# Altium schematic symbol library IC.SchLib: 114 symbols (part 1 of 3)
Pins are listed as number, name and electrical type; pins without a type are passive.

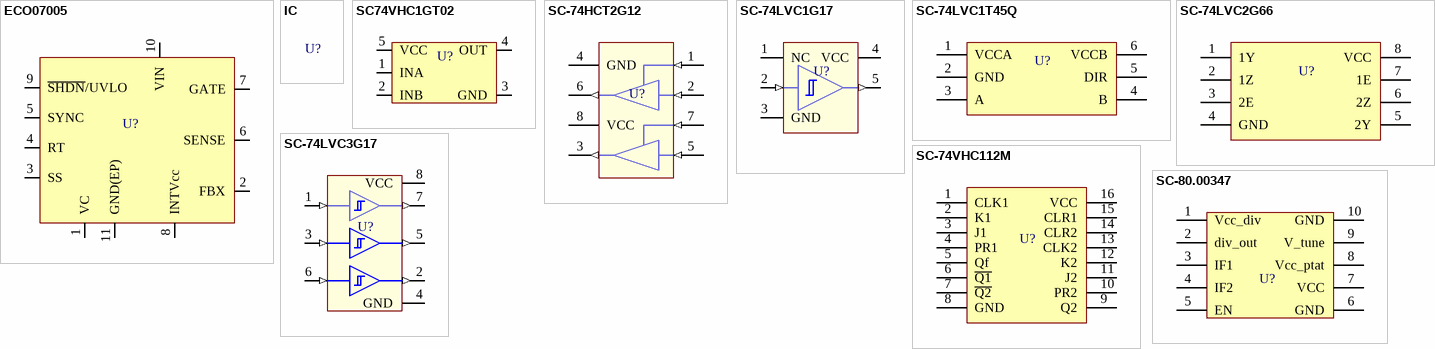
[diagram p0: symbols ECO07005 to SC-80.00347]

## ECO07005
designator U?  (value not drawn)
Boost, Flyback, SEPIC Regulator Positive and Negative Output Step-Up, Step-Up/Step-Down DC-DC Controller IC 10-MSOP-EP; Manufacturer Part Number: LT3757HMSE#PBF; Working Temperature: -40°C ~ 150°C; Short Description: IC CTRLR DC/DC ADJ 10-MSOP; Power: NC; Ratings: ROHS3; Frequency: 100KHZ ~ 1MHZ; Voltage: 2.9V ~ 40V; Value: NC; Mounting: SMT; Type: NC; Alternate Part Number 1: *; Alternate Part Number 2: *; Tolerance: NC; Revision Date: 8/3/22
footprint MSOP_10_EP (10-Lead Plastic MSOP, Exposed Die Pad)
pins: 1 VC, 2 FBX, 3 SS, 4 RT, 5 SYNC, 6 SENSE, 7 GATE, 8 INTVcc, 9 ~{SHDN}/UVLO, 10 VIN, 11 GND(EP)

## IC
designator U?
Working Temperature: NC; Short Description: ND; Value: NC; Manufacturer Part Number: *; Temperature Coefficient: NC; Mounting: *; Power: NC; Ratings: *; Type: NC; Frequency: NC; Alternate Part Number 1: *; Alternate Part Number 2: *; Manufacturer: *; Tolerance: NC; Current: NC; Revision Date: *; Package Reference: *; Voltage: NC

## SC74VHC1GT02
designator U?
NOR Gate IC 1 Channel - 5-TSOP; Manufacturer Part Number: M74VHC1GT02DTT1G; Manufacturer: ON Semiconductor; Working Temperature: -55°C ~ 125°C (TA); Temperature Coefficient: NC; Short Description: IC GATE NOR 1CH 2-INP 5TSOP; Ratings: REACH, ROHS3; Voltage: 3V ~ 5.5V; Value: NC; Mounting: SMT; Power: NC; Type: Gate; Frequency: NC; Alternate Part Number 1: *; Alternate Part Number 2: *; Tolerance: NC; Current: NC; Revision Date: 12/11/21; Package Reference: SOT-23-5
footprint SOT-23-5 (Footprint not found)
pins: 1 INA, 2 INB, 3 GND, 4 OUT, 5 VCC

## SC-74HCT2G12
designator U?
Buffer, Non-Inverting 2 Element 1 Bit per Element 3-State Output 8-XSON, SOT996-2 (2x3); Manufacturer Part Number: 74HCT2G126GD,125; Manufacturer: NXP USA Inc.; Working Temperature: -40°C ~ 125°C (TA); Temperature Coefficient: NC; Short Description: IC BUFFER NON-INVERT 5.5V 8XSON; Ratings: ROHS3; Voltage: 4.5V ~ 5.5V; Value: NC; Mounting: SMT; Power: NC; Type: NC; Frequency: NC; Alternate Part Number 1: *; Alternate Part Number 2: *; Tolerance: NC; Current: NC; Revision Date: 03/08/21; Package Reference: XSON-8
footprint XSON-8 (Footprint not found)
pins: 1 1OE (in), 2 1A (in), 3 2Y (out), 4 GND (power), 5 2A (in), 6 1Y (out), 7 2OE (in), 8 VCC (power)

## SC-74LVC1G17
designator U?
Buffer, Non-Inverting, Schmitt Trigger 1 Element 1 Bit per Element Push-Pull Output SOT-23-5, SC-70-5; Manufacturer Part Number: SN74LVC1G17; Manufacturer: Texas Instruments; Working Temperature: -40°C ~ 125°C (TA); Temperature Coefficient: NC; Short Description: IC BUF NON-INVERT 5.5V SOT23-5 SC70-5; Ratings: ROHS3; Voltage: 1.65V ~ 5.5V; Value: NC; Mounting: SMT; Power: NC; Type: Schmitt Trigger; Frequency: NC; Alternate Part Number 1: *; Alternate Part Number 2: *; Tolerance: NC; Current: NC; Revision Date: 26/04/23; Package Reference: SOT-23-5, SC-70-5
footprint SOT-23-5
footprint SC-70-5
pins: 1 NC, 2 A (in), 3 GND (power), 4 VCC (power), 5 Y (out)

## SC-74LVC1T45Q
designator U?
Voltage Level Translator Bidirectional 1 Circuit 1 Channel 420Mbps SC-70-6; Manufacturer Part Number: SN74LVC1T45QDCKRQ1; Manufacturer: Texas Instruments; Working Temperature: -40°C ~ 125°C (TA); Temperature Coefficient: NC; Short Description: IC TRANSLTR BIDIRECTIONAL SC70-6; Ratings: REACH, ROHS3, AEC-Q100; Voltage: 1.65V ~ 5.5V; Value: NC; Mounting: SMT; Power: NC; Type: Level TRNSLTR; Frequency: NC; Alternate Part Number 1: *; Alternate Part Number 2: *; Tolerance: NC; Current: NC; Revision Date: 11/04/23; Package Reference: SC-70-6
footprint SOT-363-6
pins: 1 VCCA, 2 GND, 3 A, 4 B, 5 DIR, 6 VCCB

## SC-74LVC2G66
designator U?
2 Circuit IC Switch 1:1 10Ohm 8-TSSOP; Manufacturer Part Number: 74LVC2G66DP,125; Manufacturer: Nexperia USA Inc.; Working Temperature: -40°C ~ 125°C (TA); Temperature Coefficient: NC; Short Description: IC SWITCH DUAL SPST 8TSSOP; Ratings: ROHS3; Voltage: 1.65V ~ 5.5V; Value: NC; Mounting: SMT; Power: NC; Type: NC; Frequency: NC; Alternate Part Number 1: *; Alternate Part Number 2: *; Tolerance: NC; Current: NC; Revision Date: 03/08/21; Package Reference: TSSOP-8
footprint TSSOP-8 (Footprint not found)
pins: 1 1Y, 2 1Z, 3 2E, 4 GND, 5 2Y, 6 2Z, 7 1E, 8 VCC

## SC-74LVC3G17
designator U?
Buffer, Non-Inverting, Schmitt Trigger 3 Element 1 Bit per Element Push-Pull Output VSSOP-8; Manufacturer Part Number: SN74LVC3G17DCU; Manufacturer: Texas Instruments; Working Temperature: -40°C ~ 125°C (TA); Temperature Coefficient: NC; Short Description: IC BUFFER NON-INVERT 5.5V; Ratings: ROHS3; Voltage: 1.65V ~ 5.5V; Value: NC; Mounting: SMT; Power: NC; Type: Schmitt Trigger; Frequency: NC; Alternate Part Number 1: *; Alternate Part Number 2: *; Tolerance: NC; Current: NC; Revision Date: 26/04/23; Package Reference: VSSOP-8
footprint VSSOP-8
pins: 1 1A (in), 2 3Y (out), 3 2A (in), 4 GND (power), 5 2Y (out), 6 3A (in), 7 1Y (out), 8 VCC (power)

## SC-74VHC112M
designator U?
Flip Flop 2 Element JK Type 1 Bit Negative Edge 16-TSSOP (0.173", 4.40mm Width); Manufacturer Part Number: 74VHC112MTCX; Manufacturer: ON Semiconductor; Working Temperature: -40°C ~ 85°C (TA); Temperature Coefficient: NC; Short Description: IC FF JK TYPE DUAL 1BIT 16TSSOP; Voltage: 2V ~ 5.5V; Value: NC; Mounting: SMT; Power: NC; Ratings: *; Type: NC; Frequency: NC; Alternate Part Number 1: *; Alternate Part Number 2: *; Tolerance: NC; Current: NC; Revision Date: 03/08/21; Package Reference: TSSOP-16
footprint TSSOP-16 (Footprint not found)
pins: 1 CLK1, 2 K1, 3 J1, 4 PR1, 5 Qf, 6 ~{Q1}, 7 ~{Q2}, 8 GND, 9 Q2, 10 PR2, 11 J2, 12 K2, 13 CLK2, 14 CLR2, 15 CLR1, 16 VCC

## SC-80.00347
designator U?
Proximity/Occupancy Sensor Radar - Analog Signal - -; Manufacturer Part Number: 80.00000347; Manufacturer: InnoSenT GmbH; Working Temperature: -40°C ~ 85°C; Short Description: SMR-334 RADAR MODULE; Power: NC; Ratings: ROHS3; Frequency: 24GHz; Value: NC; Temperature Coefficient: -40°C ~ 85°C; Mounting: SMT; Type: NC; Alternate Part Number 1: *; Alternate Part Number 2: *; Tolerance: NC; Revision Date: 8/3/22; Voltage: NC
footprint SMR-333/334
pins: 1 Vcc_div, 2 div_out, 3 IF1, 4 IF2, 5 EN, 6 GND, 7 VCC, 8 Vcc_ptat, 9 V_tune, 10 GND

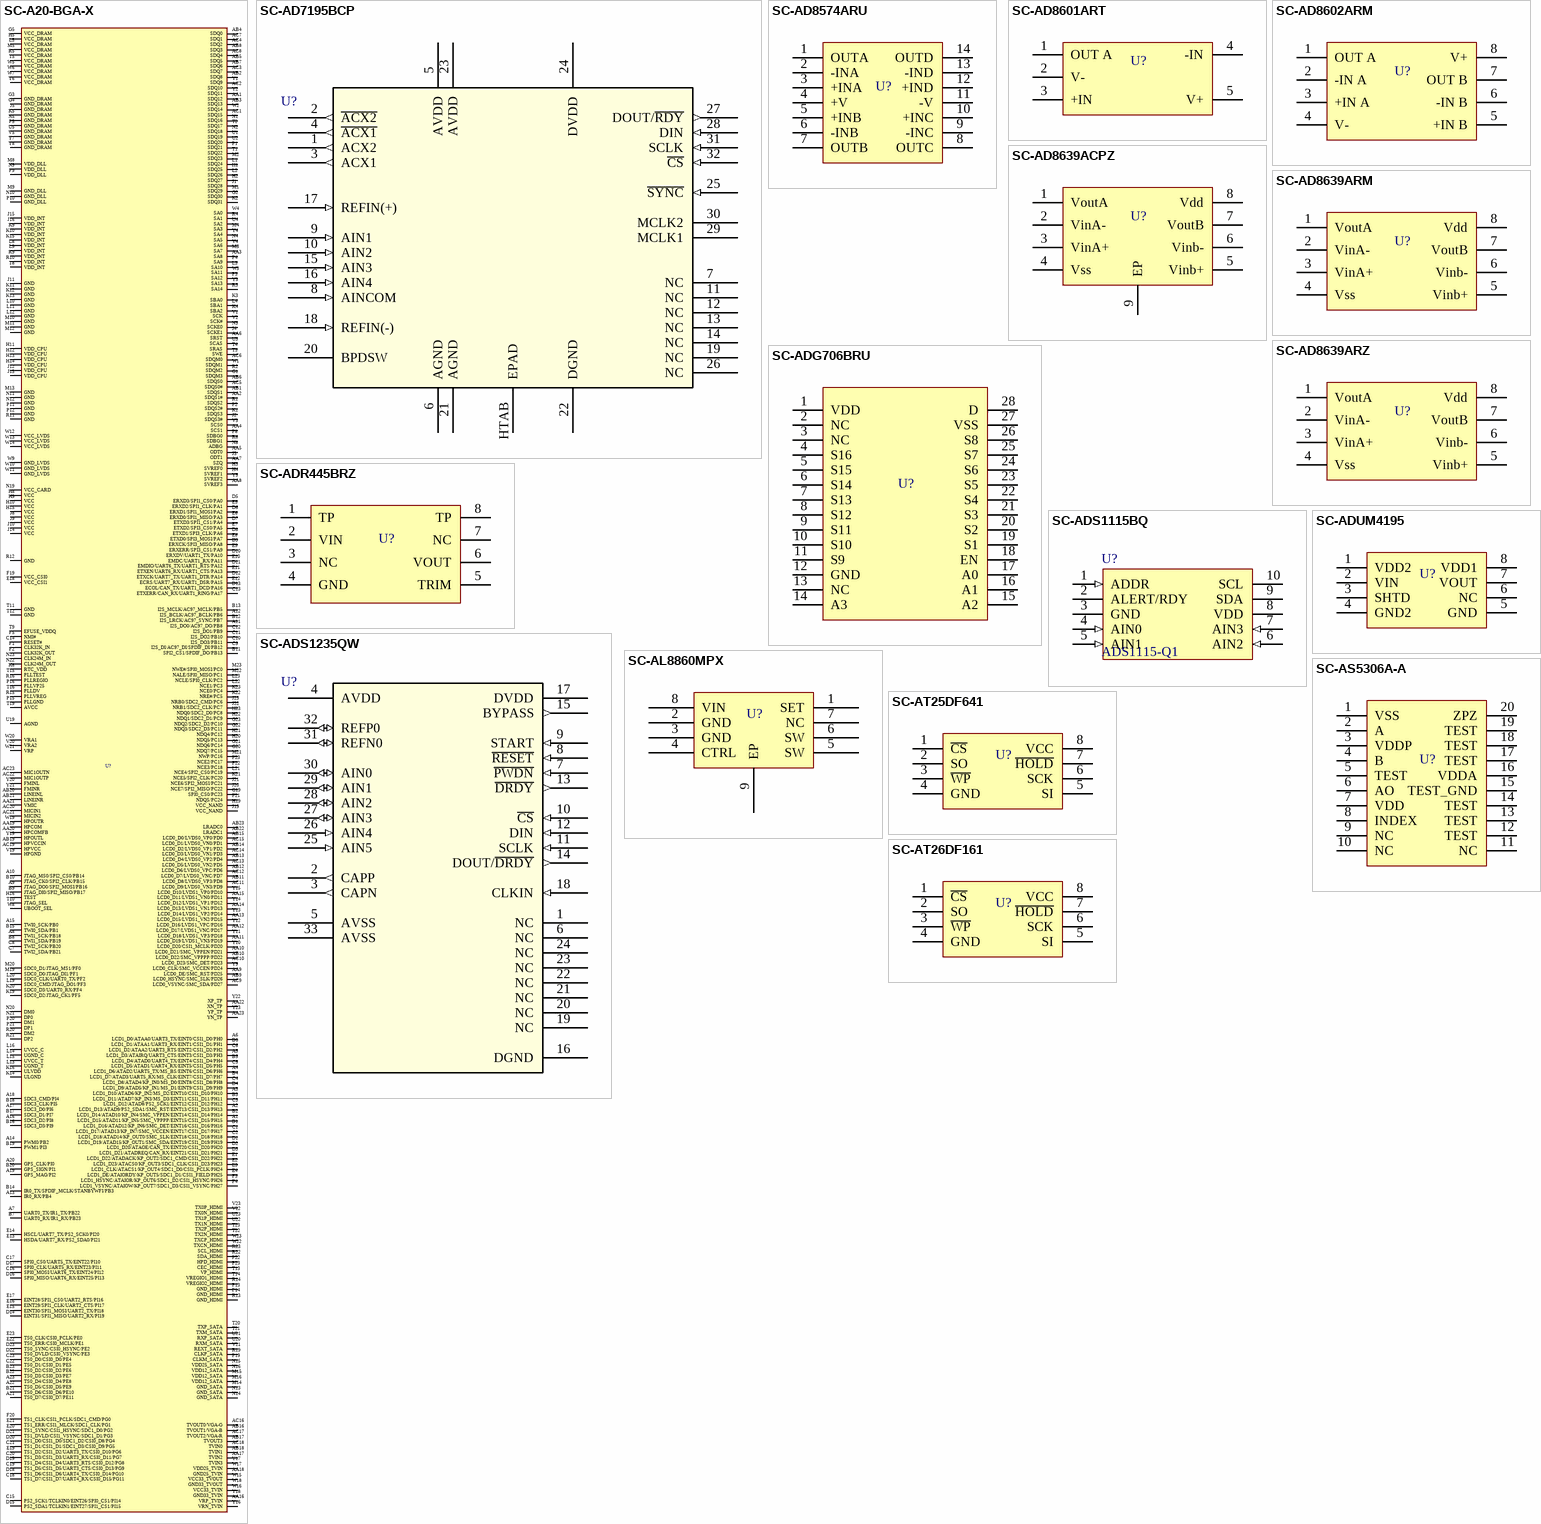
[diagram p1: symbols SC-A20-BGA-X to SC-AT26DF161]

## SC-A20-BGA-X
designator U?
ALLWINNER A20 BGA441 DUAL CORE PROC; Working Temperature: NC; Value: NC; Manufacturer Part Number: Allwinner; Temperature Coefficient: NC; Mounting: SMT; Short Description: ALLWINNER A20 BGA441 DUAL CORE PROC; Power: NC; Ratings: *; Type: NC; Frequency: NC; Alternate Part Number 1: *; Alternate Part Number 2: *; Manufacturer: Allwinner A20; Tolerance: NC; Current: NC; Revision Date: 03/08/21; Package Reference: TFBGA-441; Voltage: NC
footprint TFBGA-441 (Footprint not found)
pins: A1 LCD1_D15/ATAD11/KP_IN5/SMC_VPPPP/EINT15/CSI1_D15/PH15, A2 LCD1_D13/ATAD9/PS2_SDA1/SMC_RST/EINT13/CSI1_D13/PH13, A3 LCD1_D10/ATAD6/KP_IN2/MS_D2/EINT10/CSI1_D10/PH10, A4 LCD1_D6/ATAD2/UART5_TX/MS_BS/EINT6/CSI1_D6/PH6, A5 LCD1_D3/ATAIRQ/UART3_CTS/EINT3/CSI1_D3/PH3, A6 LCD1_D0/ATAA0/UART3_TX/EINT0/CSI1_D0/PH0, A7 UART0_TX/IR1_TX/PB22, A8 TWI1_SCK/PB18, A9 JTAG_DO0/SPI2_MOSI/PB16, A10 JTAG_MS0/SPI2_CS0/PB14, A11 I2S_DO0/AC97_DO/PB8, A12 I2S_BCLK/AC97_BCLK/PB6, A13 IR0_RX/PB4, A14 PWM0/PB2, A15 TWI0_SCK/PB0, A16 SDC3_D2/PI8, A17 SDC3_D0/PI6, A18 SDC3_CMD/PI4, A19 GPS_MAG/PI2, A20 GPS_CLK/PI0, A21 TS0_D7/CSI0_D7/PE11, A22 TS0_D5/CSI0_D5/PE9, A23 TS0_D4/CSI0_D4/PE8, AA1 SDQ12, AA2 SDQS1#, AA3 SA8, AA4 SCS1, AA5 ODT0, AA6 SRST, AA7 SZQ, AA8 SVREF3, AA9 LCD0_DE/SMC_RST/PD25, AA10 LCD0_D21/SMC_VPPEN/PD21, AA11 LCD0_D19/LVDS1_VN3/PD19, AA12 LCD0_D17/LVDS1_VNC/PD17, AA13 LCD0_D15/LVDS1_VN2/PD15, AA14 LCD0_D13/LVDS1_VN1/PD13, AA15 LCD0_D11/LVDS1_VN0/PD11, AA16 VRP_TVIN, AA17 TVIN2, AA18 GND25_TVIN, AA19 HPCOM, AA20 HPCOMFB, AA21 VMIC, AA22 XN_TP, AA23 YN_TP, AB1 SDQS1, AB2 SDQ8, AB3 SDQ13, AB4 SDQ0, AB5 SDQ5, AB6 SDQS0, AB7 SDQ6, AB8 SDQ3, AB9 LCD0_HSYNC/SMC_SLK/PD26, AB10 LCD0_D22/SMC_VPPPP/PD22, AB11 LCD0_D8/LVDS0_VP3/PD8, AB12 LCD0_D6/LVDS0_VPC/PD6, AB13 LCD0_D4/LVDS0_VP2/PD4, AB14 LCD0_D2/LVDS0_VP1/PD2, AB15 LCD0_D0/LVDS0_VP0/PD0, AB16 TVOUT1/VGA-B, AB17 TVOUT3, AB18 TVIN1, AB19 HPVCCIN, AB20 LINEINL, AB21 LINEINR, AB22 LRADC1, AB23 LRADC0, AC1 SDQ15, AC2 SDQ10, AC3 SDQ7, AC4 SDQ2, AC5 SDQS0#, AC6 SDQM0, AC7 SDQ1, AC8 SDQ4, AC9 LCD0_VSYNC/SMC_SDA/PD27, AC10 LCD0_D23/SMC_DET/PD23, AC11 LCD0_D9/LVDS0_VN3/PD9, AC12 LCD0_D7/LVDS0_VNC/PD7, AC13 LCD0_D5/LVDS0_VN2/PD5, AC14 LCD0_D3/LVDS0_VN1/PD3, AC15 LCD0_D1/LVDS0_VN0/PD1, AC16 TVOUT0/VGA-G, AC17 TVOUT2/VGA-R, AC18 TVIN0, AC19 HPVCC, AC20 MICIN1, AC21 MICIN2, AC22 MIC1OUTP, AC23 MIC1OUTN, B1 LCD1_D16/ATAD12/KP_IN6/SMC_DET/EINT16/CSI1_D16/PH16, B2 LCD1_D14/ATAD10/KP_IN4/SMC_VPPEN/EINT14/CSI1_D14/PH14, B3 LCD1_D11/ATAD7/KP_IN3/MS_D3/EINT11/CSI1_D11/PH11, B4 LCD1_D7/ATAD3/UART5_RX/MS_CLK/EINT7/CSI1_D7/PH7, B5 LCD1_D4/ATAD0/UART4_TX/EINT4/CSI1_D4/PH4, B6 LCD1_D1/ATAA1/UART3_RX/EINT1/CSI1_D1/PH1, B7 UART0_RX/IR1_RX/PB23, B8 TWI1_SDA/PB19, B9 JTAG_DI0/SPI2_MISO/PB17, B10 JTAG_CK0/SPI2_CLK/PB15, B11 SPI2_CS1/SPDIF_DO/PB13, B12 I2S_LRCK/AC97_SYNC/PB7, B13 I2S_MCLK/AC97_MCLK/PB5, B14 IR0_TX/SPDIF_MCLK/STANBYWFI/PB3, B15 TWI0_SDA/PB1, B16 SDC3_D3/PI9, B17 SDC3_D1/PI7, B18 SDC3_CLK/PI5, B19 PWM1/PI3, B20 GPS_SIGN/PI1, B21 TS0_D6/CSI0_D6/PE10, B22 TS0_D3/CSI0_D3/PE7, B23 TS0_D2/CSI0_D2/PE6, C1 LCD1_D17/ATAD13/KP_IN7/SMC_VCCEN/EINT17/CSI1_D17/PH17, C2 LCD1_D18/ATAD14/KP_OUT0/SMC_SLK/EINT18/CSI1_D18/PH18, C3 LCD1_D12/ATAD8/PS2_SCK1/EINT12/CSI1_D12/PH12, C4 LCD1_D8/ATAD4/KP_IN0/MS_D0/EINT8/CSI1_D8/PH8, C5 LCD1_D5/ATAD1/UART4_RX/EINT5/CSI1_D5/PH5, C6 LCD1_D2/ATAA2/UART3_RTS/EINT2/CSI1_D2/PH2, C7 TWI2_SDA/PB21, C8 TWI2_SCK/PB20, C9 I2S_DI/AC97_DI/SPDIF_DI/PB12, C10 I2S_DO3/PB11, C11 I2S_DO2/PB10, C12 I2S_DO1/PB9, C13 ETXERR/CAN_RX/UART1_RING/PA17, C14 RESET#, C15 PS2_SCK1/TCLKIN0/EINT26/SPI0_CS1/PI14, C16 SPI0_MOSI/UART6_TX/EINT24/PI12, C17 SPI0_CS0/UART5_TX/EINT22/PI10, C18 TS1_D7/CSI1_D7/UART4_RX/CSI0_D15/PG11, C19 TS1_D5/CSI1_D5/UART3_CTS/CSI0_D13/PG9, C20 TS1_D3/CSI1_D3/UART3_RX/CSI0_D11/PG7, C21 TS1_D1/CSI1_D1/SDC1_D3/CSI0_D9/PG5, C22 TS0_D1/CSI0_D1/PE5, C23 TS0_D0/CSI0_D0/PE4, D1 LCD1_D19/ATAD15/KP_OUT1/SMC_SDA/EINT19/CSI1_D19/PH19, D2 LCD1_D20/ATAOE/CAN_TX/EINT20/CSI1_D20/PH20, D3 LCD1_D21/ATADREQ/CAN_RX/EINT21/CSI1_D21/PH21, D4 LCD1_D9/ATAD5/KP_IN1/MS_D1/EINT9/CSI1_D9/PH9, D5 ERXD3/SPI1_CS0/PA0, D6 ERXD1/SPI1_MOSI/PA2, D7 ETXD3/SPI1_CS1/PA4, D8 ETXD1/SPI3_CLK/PA6, D9 ERXCK/SPI3_MISO/PA8, D10 ERXDV/UART1_TX/PA10, D11 EMDIO/UART6_TX/UART1_RTS/PA12, D12 ETXCK/UART7_TX/UART1_DTR/PA14, D13 ECOL/CAN_TX/UART1_DCD/PA16, D14 EINT31/SPI1_MISO/UART2_RX/PI19, D15 PS2_SDA1/TCLKIN1/EINT27/SPI1_CS1/PI15, D16 SPI0_MISO/UART6_RX/EINT25/PI13, D17 SPI0_CLK/UART5_RX/EINT23/PI11, D18 TS1_D6/CSI1_D6/UART4_TX/CSI0_D14/PG10, D19 TS1_D4/CSI1_D4/UART3_RTS/CSI0_D12/PG8, D20 TS1_D0/CSI1_D0/SDC1_D2/CSI0_D8/PG4, D21 TS1_DVLD/CSI1_VSYNC/SDC1_D1/PG3, D22 TS0_DVLD/CSI0_VSYNC/PE3, D23 TS0_SYNC/CSI0_HSYNC/PE2, E1 LCD1_D22/ATADACK/KP_OUT2/SDC1_CMD/CSI1_D22/PH22, E2 LCD1_D23/ATACS0/KP_OUT3/SDC1_CLK/CSI1_D23/PH23, E3 LCD1_CLK/ATACS1/KP_OUT4/SDC1_D0/CSI1_PCLK/PH24, E4 LCD1_DE/ATAIORDY/KP_OUT5/SDC1_D1/CSI1_FIELD/PH25, E5 ERXD2/SPI1_CLK/PA1, E6 ERXD0/SPI1_MISO/PA3, E7 ETXD2/SPI3_CS0/PA5, E8 ETXD0/SPI3_MOSI/PA7, E9 ERXERR/SPI3_CS1/PA9, E10 EMDC/UART1_RX/PA11, E11 ETXEN/UART6_RX/UART1_CTS/PA13, E12 ECRS/UART7_RX/UART1_DSR/PA15, E13 HSDA/UART7_RX/PS2_SDA0/PI21, E14 HSCL/UART7_TX/PS2_SCK0/PI20, E15 EINT30/SPI1_MOSI/UART2_TX/PI18, E16 EINT29/SPI1_CLK/UART2_CTS/PI17, E17 EINT28/SPI1_CS0/UART2_RTS/PI16, E18 VCC_CSI1, E19 TS1_D2/CSI1_D2/UART3_TX/CSI0_D10/PG6, E20 TS1_SYNC/CSI1_HSYNC/SDC1_D0/PG2, E21 TS1_ERR/CSI1_MLCK/SDC1_CLK/PG1, E22 TS0_ERR/CSI0_MCLK/PE1, E23 TS0_CLK/CSI0_PCLK/PE0, F1 CLK32K_IN, F2 CLK32K_OUT, F3 LCD1_HSYNC/ATAIOR/KP_OUT6/SDC1_D2/CSI1_HSYNC/PH26, F4 LCD1_VSYNC/ATAIOW/KP_OUT7/SDC1_D3/CSI1_VSYNC/PH27, F5 NMI#, F19 VCC_CSI0, F20 TS1_CLK/CSI1_PCLK/SDC1_CMD/PG0, F21 NDQS/PC24, F22 NCE3/PC18, F23 NCE2/PC17, G1 SDQM3, G2 SDQ30, G3 GND_DRAM, G4 GND_DRAM, G5 VCC_DRAM, G19 SPI0_CS0/PC23, G20 NDQ7/PC15, G21 NDQ6/PC14, G22 NDQ3/SDC2_D3/PC11, G23 NDQ2/SDC2_D2/PC10, H1 SDQ25, H2 SDQ27, H3 SVREF0, H4 SVREF1, H5 VCC_DRAM, H8 VCC, H9 VCC, H10 VCC, H11 VDD_CPU, H12 VDD_CPU, H13 VDD_CPU, H14 VDD_CPU, H15 VCC, H16 TEST, H19 VCC_NAND, H20 NDQ5/PC13, H21 NDQ4/PC12, H22 NDQ1/SDC2_D1/PC9, H23 NDQ0/SDC2_D0/PC8, J1 SDQ28, J2 SDQS3#, J3 ODT1, J4 SCKE1, J5 GND_DRAM, J8 VCC, J9 VCC, J10 VCC, J11 GND, J12 VDD_CPU, J13 VDD_CPU, J14 VCC, J15 VDD_INT, J16 VDD_INT, J19 VCC_NAND, J20 NCE7/SPI2_MISO/PC22, J21 NCE6/SPI2_MOSI/PC21, J22 NRB1/SDC2_CLK/PC7, J23 NRB0/SDC2_CMD/PC6, K1 SDQS3, K2 SDQ31, K3 SBA0, K4 SBA2, K5 GND_DRAM, K8 RTC_VDD, K9 VDD_INT, K10 VDD_INT, K11 GND, K12 GND, K13 GND, K14 ULGND, K15 VDD_INT, K16 ULVDD, K19 SDC0_D2/JTAG_CK1/PF5, K20 SDC0_D3/UART0_RX/PF4, K21 NCE5/SPI2_CLK/PC20, K22 NRE#/PC5, K23 NCE0/PC4, L1 SDQ24, L2 SDQ26, L3 SA10, L4 SBA1, L5 VCC_DRAM, L8 VDD_INT, L9 VDD_INT, L10 GND, L11 GND, L12 GND, L13 UGND_T, L14 UGND_C, L15 UVCC_T, L16 UVCC_C, L19 SDC0_CMD/JTAG_DO1/PF3, L20 SDC0_CLK/UART0_TX/PF2, L21 NCE4/SPI2_CS0/PC19, L22 NCE1/PC3, L23 NCLE/SPI0_CLK/PC2, M1 SDQ29, M2 SDQ23, M3 SA7, M4 SA3, M5 VCC_DRAM, M8 VDD_DLL, M9 GND_DLL, M10 GND, M11 GND, M12 GND, M13 GND, M14 GND_SATA, M15 VDD12_SATA, M16 VDD12_SATA, M19 SDC0_D0/JTAG_DI1/PF1, M20 SDC0_D1/JTAG_MS1/PF0, M21 NWP/PC16, M22 NALE/SPI0_MISO/PC1, M23 NWE#/SPI0_MOSI/PC0, N1 SDQ16, N2 SDQ18, N3 SCKE0, N4 SA5, N5 GND_DRAM, N8 ADBG, N9 VDD_DLL, N10 GND_DLL, N11 GND, N12 GND, N13 GND_SATA, N14 GND_SATA, N15 VDD25_SATA, N16 VDD12_SATA, N19 VCC_CARD, N20 DM0, N21 DP0, N22 CLK24M_OUT, N23 CLK24M_IN, P1 SDQ21, P2 SDQS2#, P3 SA12, P4 SA9, P5 GND_DRAM, P8 SDBG0, P9 VDD_DLL, P10 GND_DLL, P11 GND, P12 GND, P13 GND_HDMI, P14 GND_HDMI, P15 PLLGND, P16 PLLVP25, P19 CLKM_SATA, P20 DM1, P21 DP1, P22 HPD_HDMI, P23 CEC_HDMI, R1 SDQS2, R2 SDQM2, R3 SA14, R4 SA1, R5 VCC_DRAM, R8 SDBG1, R9 VDD_INT, R10 VDD_INT, R11 GND, R12 GND, R13 GND_HDMI, R14 VREGIO2_HDMI, R15 PLLVREG, R16 PLLREGIO, R19 CLKP_SATA, R20 DM2, R21 DP2, R22 SDA_HDMI, R23 SCL_HDMI, T1 SDQ22, T2 SDQ17, T3 SWE, T4 SRAS, T5 VCC_DRAM, T8 VDD_INT, T9 EFUSE_VDDQ, T10 JTAG_SEL, T11 GND, T12 GND, T13 VP_HDMI, T14 VREGIO1_HDMI, T15 PLLTEST, T16 PLLDV, T19 AVCC, T20 TXP_SATA, T21 TXM_SATA, T22 TX2N_HDMI, T23 TX2P_HDMI, U1 SDQ19, U2 SDQ20, U3 SCAS, U4 SA2, U5 GND_DRAM, U19 AGND, U20 RXM_SATA, U21 RXP_SATA, U22 TX1N_HDMI, U23 TX1P_HDMI, V1 SCK, V2 SCK#, V3 SCS0, V4 SA6, V5 GND_DRAM, V19 HPGND, V20 VRA2, V21 REXT_SATA, V22 TX0N_HDMI, V23 TX0P_HDMI, W1 SDQM1, W2 SDQ14, W3 SA11, W4 SA0, W5 VCC_DRAM, W6 VCC_DRAM, W7 VCC_DRAM, W8 UBOOT_SEL, W9 GND_LVDS, W10 GND_LVDS, W11 GND_LVDS, W12 VCC_LVDS, W13 VCC_LVDS, W14 VCC_LVDS, W15 VCC33_TVOUT, W16 VCC33_TVIN, W17 VDD25_TVIN, W18 GND33_TVOUT, W19 HPOUTR, W20 VRA1, W21 VRP, W22 TXCN_HDMI, W23 TXCP_HDMI, Y1 SDQ9, Y2 SDQ11, Y3 SA13, Y4 SA4, Y5 SVREF2, Y6 VCC_DRAM, Y7 GND_DRAM, Y8 GND_DRAM, Y9 LCD0_CLK/SMC_VCCEN/PD24, Y10 LCD0_D20/CSI1_MCLK/PD20, Y11 LCD0_D18/LVDS1_VP3/PD18, Y12 LCD0_D16/LVDS1_VPC/PD16, Y13 LCD0_D14/LVDS1_VP2/PD14, Y14 LCD0_D12/LVDS1_VP1/PD12, Y15 LCD0_D10/LVDS1_VP0/PD10, Y16 VRN_TVIN, Y17 TVIN3, Y18 GND33_TVIN, Y19 HPOUTL, Y20 FMINL, Y21 FMINR, Y22 XP_TP, Y23 YP_TP

## SC-AD7195BCP
designator U?, comment AD7195BCPZ  (value not drawn)
1 Channel AFE 24 Bit 32-LFCSP (5x5); Manufacturer: Analog Devices Inc.; Working Temperature: -40°C to +105°C; Temperature Coefficient: NC; Short Description: IC AFE 1 CHAN 24BIT 32LFCSP; Ratings: ROHS3; EAR99; 8542.39.0001; Frequency: 4.92MHz; Current: 6mA; Voltage: 5V / 2.7V-5V; Value: 24 Bits; Manufacturer Part Number: AD7195BCPZ; Mounting: SMD; Power: NC; Type: Sigma-Delta; Alternate Part Number 1: *; Alternate Part Number 2: *; Tolerance: NC; Revision Date: 04/05/2023; Package Reference: 32-LFCSP (5x5); ComponentLink1Description: Datasheet; ComponentLink1URL: https://www.analog.com/media/en/technical-documentation/data-sheets/AD7195.pdf; ComponentLink2Description: Reference design; ComponentLink2URL: https://www.analog.com/media/en/reference-design-documentation/reference-designs/CN0155.pdf
footprint CP_32_11_ADI-M
pins: 1 ACX2 (out), 2 ~{ACX2} (out), 3 ACX1 (out), 4 ~{ACX1} (out), 5 AVDD (power), 6 AGND (power), 7 NC, 8 AINCOM (in), 9 AIN1 (in), 10 AIN2 (in), 11 NC, 12 NC, 13 NC, 14 NC, 15 AIN3 (in), 16 AIN4 (in), 17 REFIN(+) (in), 18 REFIN(-) (in), 19 NC, 20 BPDSW, 21 AGND (power), 22 DGND (power), 23 AVDD (power), 24 DVDD (power), 25 ~{SYNC} (in), 26 NC, 27 DOUT/~{RDY} (out), 28 DIN (in), 29 MCLK1, 30 MCLK2, 31 SCLK (in), 32 ~{CS} (in), HTAB EPAD

## SC-AD8574ARU
designator U?
Zero-Drift Amplifier 4 Circuit Rail-to-Rail 14-TSSOP; Manufacturer Part Number: AD8574ARUZ; Manufacturer: Analog Devices Inc.; Working Temperature: -40°C ~ 125°C; Temperature Coefficient: NC; Short Description: IC OPAMP ZER-DRIFT 4CIRC 14TSSOP; Ratings: REACH, ROHS3; Voltage: 2.7V ~ 5V; Value: NC; Mounting: SMT; Power: NC; Type: NC; Frequency: NC; Alternate Part Number 1: *; Alternate Part Number 2: *; Tolerance: NC; Current: NC; Revision Date: 03/08/21; Package Reference: TSSOP-14
footprint TSSOP-14 (Footprint not found)
pins: 1 OUTA, 2 -INA, 3 +INA, 4 +V, 5 +INB, 6 -INB, 7 OUTB, 8 OUTC, 9 -INC, 10 +INC, 11 -V, 12 +IND, 13 -IND, 14 OUTD

## SC-AD8601ART
designator U?
General Purpose Amplifier 1 Circuit Rail-to-Rail SOT-23-5; Manufacturer Part Number: AD8601ARTZ-REEL7; Manufacturer: Analog Devices Inc.; Working Temperature: -40°C ~ 125°C; Temperature Coefficient: NC; Short Description: OPERATIONAL AMPLIFIER, 2100UV OF; Ratings: ND; Voltage: 2.7V ~ 5.5V; Value: NC; Mounting: SMT; Power: NC; Type: NC; Frequency: NC; Alternate Part Number 1: *; Alternate Part Number 2: *; Tolerance: NC; Current: NC; Revision Date: 03/08/21; Package Reference: SOT-23-5
footprint SOT-23-5 (Footprint not found)
pins: 1 OUT A, 2 V-, 3 +IN, 4 -IN, 5 V+

## SC-AD8602ARM
designator U?
CMOS Amplifier 2 Circuit Rail-to-Rail 8-MSOP; Manufacturer Part Number: AD8602ARMZ-REEL; Manufacturer: Analog Devices Inc.; Working Temperature: -40°C ~ 125°C; Temperature Coefficient: NC; Short Description: IC OPAMP GP 2 CIRCUIT 8MSOP; Ratings: REACH, ROHS3; Voltage: 2.7V ~ 5.5V; Value: NC; Mounting: SMT; Power: NC; Type: NC; Frequency: NC; Alternate Part Number 1: *; Alternate Part Number 2: *; Tolerance: NC; Current: NC; Revision Date: 03/08/21; Package Reference: MSOP-8
footprint MSOP-8 (Footprint not found)
pins: 1 OUT A, 2 -IN A, 3 +IN A, 4 V-, 5 +IN B, 6 -IN B, 7 OUT B, 8 V+

## SC-AD8639ACPZ
designator U?
Chopper (Zero-Drift) Amplifier 2 Circuit Rail-to-Rail 8-LFCSP-WD (3x3); Manufacturer Part Number: AD8639ACPZ; Manufacturer: Analog Devices Inc.; Working Temperature: -40°C ~ 125°C; Temperature Coefficient: NC; Short Description: ND; Ratings: REACH, ROHS3; Voltage: 5V ~ 16V, ±2.5V ~ 8V; Value: NC; Mounting: SMT; Power: NC; Type: NC; Frequency: NC; Alternate Part Number 1: *; Alternate Part Number 2: *; Tolerance: NC; Current: NC; Revision Date: 24/08/21; Package Reference: MSOP-8
footprint DFN-8_3x3
pins: 1 VoutA, 2 VinA-, 3 VinA+, 4 Vss, 5 Vinb+, 6 Vinb-, 7 VoutB, 8 Vdd, 9 EP

## SC-AD8639ARM
designator U?
Chopper (Zero-Drift) Amplifier 2 Circuit Rail-to-Rail 8-MSOP; Manufacturer Part Number: AD8639ARMZ-REEL; Manufacturer: Analog Devices Inc.; Working Temperature: -40°C ~ 125°C; Temperature Coefficient: NC; Short Description: ND; Ratings: REACH, ROHS3; Voltage: 5V ~ 16V, ±2.5V ~ 8V; Value: NC; Mounting: SMT; Power: NC; Type: NC; Frequency: NC; Alternate Part Number 1: *; Alternate Part Number 2: *; Tolerance: NC; Current: NC; Revision Date: 03/08/21; Package Reference: MSOP-8
footprint MSOP-8
pins: 1 VoutA, 2 VinA-, 3 VinA+, 4 Vss, 5 Vinb+, 6 Vinb-, 7 VoutB, 8 Vdd

## SC-AD8639ARZ
designator U?
Chopper (Zero-Drift) Amplifier 2 Circuit Rail-to-Rail 8-SOIC; Manufacturer Part Number: AD8639ARZ; Manufacturer: Analog Devices Inc.; Working Temperature: -40°C ~ 125°C; Temperature Coefficient: NC; Short Description: ND; Ratings: REACH, ROHS3; Voltage: 5V ~ 16V, ±2.5V ~ 8V; Value: NC; Mounting: SMT; Power: NC; Type: NC; Frequency: NC; Alternate Part Number 1: *; Alternate Part Number 2: *; Tolerance: NC; Current: NC; Revision Date: 24/08/21; Package Reference: SOIC-8N
footprint SOIC-8N
pins: 1 VoutA, 2 VinA-, 3 VinA+, 4 Vss, 5 Vinb+, 6 Vinb-, 7 VoutB, 8 Vdd

## SC-ADG706BRU
designator U?
1 Circuit IC Switch 16:1 4.5Ohm 28-TSSOP; Manufacturer Part Number: ADG706BRUZ; Manufacturer: Analog Devices Inc.; Working Temperature: -40°C ~ 85°C (TA); Temperature Coefficient: NC; Short Description: IC MULTIPLEXER 16X1 28TSSOP; Ratings: REACH, ROHS3; Voltage: 1.8V ~ 5.5V; Value: NC; Mounting: SMT; Power: NC; Type: NC; Frequency: NC; Alternate Part Number 1: *; Alternate Part Number 2: *; Tolerance: NC; Current: NC; Revision Date: 03/08/21; Package Reference: TSSOP-28
footprint TSSOP-28 (Footprint not found)
pins: 1 VDD, 2 NC, 3 NC, 4 S16, 5 S15, 6 S14, 7 S13, 8 S12, 9 S11, 10 S10, 11 S9, 12 GND, 13 NC, 14 A3, 15 A2, 16 A1, 17 A0, 18 EN, 19 S1, 20 S2, 21 S3, 22 S4, 23 S5, 24 S6, 25 S7, 26 S8, 27 VSS, 28 D

## SC-ADR445BRZ
designator U?
Series Voltage Reference IC ±0.04% 8-SOIC; Manufacturer Part Number: ADR445BRZ; Manufacturer: Analog Devices Inc.; Working Temperature: -40°C ~ 125°C (TA); Temperature Coefficient: NC; Short Description: IC VREF SERIES 0.04% 8SOIC; Ratings: REACH, ROHS3; Voltage: 5.5V ~ 18V; Value: NC; Mounting: SMT; Power: NC; Type: NC; Frequency: NC; Alternate Part Number 1: *; Alternate Part Number 2: *; Tolerance: NC; Current: NC; Revision Date: 03/08/21; Package Reference: SOIC-8N
footprint SOIC-8N (Footprint not found)
pins: 1 TP, 2 VIN, 3 NC, 4 GND, 5 TRIM, 6 VOUT, 7 NC, 8 TP

## SC-ADS1115BQ
designator U?, comment ADS1115-Q1
Automotive 16-Bit 860SPS 4-Ch Delta-Sigma ADC With PGA, Oscillator, VREF, Comparator, and I2C; Manufacturer_Name: Texas Instruments; Manufacturer_Part_Number: ADS1115BQDGSRQ1; Geometry.Height: 1.1mm; Mouser Part Number: 595-ADS1115BQDGSRQ1; Datasheet Link: http://www.ti.com/lit/gpn/ads1115-q1
footprint VSSOP-10
pins: 1 ADDR (in), 2 ALERT/RDY, 3 GND, 4 AIN0 (in), 5 AIN1 (in), 6 AIN2 (in), 7 AIN3 (in), 8 VDD, 9 SDA, 10 SCL

## SC-ADS1235QW
designator U?
24 Bit Analog to Digital Converter 3, 5 Input 1 Sigma-Delta 32-VQFN (5x5); Manufacturer Part Number: ADS1235QWRHMRQ1; Manufacturer: Texas Instruments; Working Temperature: -40°C ~ 125°C; Temperature Coefficient: NC; Short Description: IC ADC 24BIT SIGMA-DELTA 32VQFNP; Voltage: 2.7V ~ 5.25V; Value: NC; Mounting: Surface Mount; Power: NC; Ratings: *; Type: NC; Frequency: NC; Alternate Part Number 1: *; Alternate Part Number 2: *; Tolerance: NC; Current: NC; Revision Date: *; Package Reference: 32-VQFN (5x5)
footprint VQFN-32_5x5 (32-VFQFN Exposed Pad)
pins: 1 NC, 2 CAPP (out), 3 CAPN (out), 4 AVDD (power), 5 AVSS, 6 NC, 7 ~{PWDN} (in), 8 ~{RESET} (in), 9 START (in), 10 ~{CS} (in), 11 SCLK (in), 12 DIN (in), 13 ~{DRDY} (out), 14 DOUT/~{DRDY} (out), 15 BYPASS (out), 16 DGND, 17 DVDD (power), 18 CLKIN (in), 19 NC, 20 NC, 21 NC, 22 NC, 23 NC, 24 NC, 25 AIN5 (in), 26 AIN4 (in), 27 AIN3 (io), 28 AIN2 (io), 29 AIN1 (io), 30 AIN0 (io), 31 REFN0 (io), 32 REFP0 (io), 33 AVSS

## SC-ADUM4195
designator U?  (value not drawn)
HIGH STABILITY ISOLATED ERROR AM; Manufacturer Part Number: ADUM4195-1BRIZ; Manufacturer: Analog Devices Inc.; Working Temperature: -40°C ~ 125°C; Temperature Coefficient: NC; Short Description: Isolator, Error Amplifier IC Automotive 8-SOIC-IC; Ratings: REACH, ROHS3; Voltage: 4.5V ~ 5.5V; Value: NC; Mounting: SMT; Power: NC; Type: NC; Frequency: NC; Alternate Part Number 1: *; Alternate Part Number 2: *; Tolerance: NC; Current: NC; Revision Date: 03/08/21; Package Reference: SOIC-8N
footprint SOIC-8W
pins: 1 VDD2, 2 VIN, 3 SHTD, 4 GND2, 5 GND, 6 NC, 7 VOUT, 8 VDD1

## SC-AL8860MPX
designator U?  (value not drawn)
LED Driver IC 1 Output DC DC Regulator Step-Down (Buck) Analog, PWM Dimming 1.5A 8-MSOP-EP; Manufacturer Part Number: AL8860MP-13; Manufacturer: Diodes Incorporated; Working Temperature: -40°C ~ 105°C (TA); Temperature Coefficient: NC; Short Description: IC LED DRVR 8MSOP; Ratings: REACH, ROHS3; Frequency: 1MHZ; Voltage: 4.5V ~ 40V; Value: 36V; Mounting: SMT; Power: NC; Type: NC; Alternate Part Number 1: *; Alternate Part Number 2: *; Tolerance: NC; Current: 1.5A; Revision Date: 03/08/21; Package Reference: 8-MSOP-EP
footprint R-PDSO-G8 (8-TSSOP, 8-MSOP (0.118", 3.00mm Width) Exposed Pad)
pins: 1 SET, 2 GND, 3 GND, 4 CTRL, 5 SW, 6 SW, 7 NC, 8 VIN, 9 EP

## SC-AS5306A-A
designator U?
Rotary Encoder Magnetic 1280 Quadrature (Incremental) -; Manufacturer Part Number: AS5306A-ATSU; Manufacturer: ams; Working Temperature: -40°C ~ 125°C (TA); Temperature Coefficient: NC; Short Description: ROTARY ENCODER MAGNETIC 1280PPR; Ratings: REACH; Voltage: 4.5V ~ 5.5V; Value: NC; Mounting: SMT; Power: NC; Type: NC; Frequency: NC; Alternate Part Number 1: *; Alternate Part Number 2: *; Tolerance: NC; Current: NC; Revision Date: 03/08/21; Package Reference: TSSOP-20
footprint TSSOP-20 (Footprint not found)
pins: 1 VSS, 2 A, 3 VDDP, 4 B, 5 TEST, 6 AO, 7 VDD, 8 INDEX, 9 NC, 10 NC, 11 NC, 12 TEST, 13 TEST, 14 TEST, 15 TEST_GND, 16 VDDA, 17 TEST, 18 TEST, 19 TEST, 20 ZPZ

## SC-AT25DF641
designator U?, comment OBSOLETO  (value not drawn)
FLASH Memory IC 64Mb (256 Bytes x 32K pages) SPI 100MHz 8-SOIC; Manufacturer Part Number: AT25DF641A-SH-B; Manufacturer: Adesto Technologies; Working Temperature: -40°C ~ 85°C (TC); Temperature Coefficient: NC; Short Description: IC FLASH 64MBIT SPI 100MHZ 8SOIC; Ratings: ROHS3; Voltage: 2.7V ~ 3.6V; Value: NC; Mounting: SMT; Power: NC; Type: NC; Frequency: NC; Alternate Part Number 2: *; Tolerance: NC; Current: NC; Revision Date: 03/08/21; Package Reference: SOIC-8N
footprint SOIC-8N
pins: 1 ~{CS}, 2 SO, 3 ~{WP}, 4 GND, 5 SI, 6 SCK, 7 ~{HOLD}, 8 VCC

## SC-AT26DF161
designator U?
FLASH Memory IC 16Mb (256 Bytes x 8192 pages) SPI 66 MHz 8-SOIC; Manufacturer Part Number: AT26DF161-SU; Manufacturer: Microchip Technology; Working Temperature: -40°C ~ 85°C (TC); Temperature Coefficient: NC; Short Description: IC FLASH 16MBIT SPI 66MHZ 8SOIC; Ratings: REACH, ROHS3; Voltage: 2.7V ~ 3.6V; Value: NC; Mounting: SMT; Power: NC; Type: NC; Frequency: NC; Alternate Part Number 1: *; Alternate Part Number 2: *; Tolerance: NC; Current: NC; Revision Date: 03/08/21; Package Reference: SOIC-8N
footprint SOIC-8N (Footprint not found)
pins: 1 ~{CS}, 2 SO, 3 ~{WP}, 4 GND, 5 SI, 6 SCK, 7 ~{HOLD}, 8 VCC

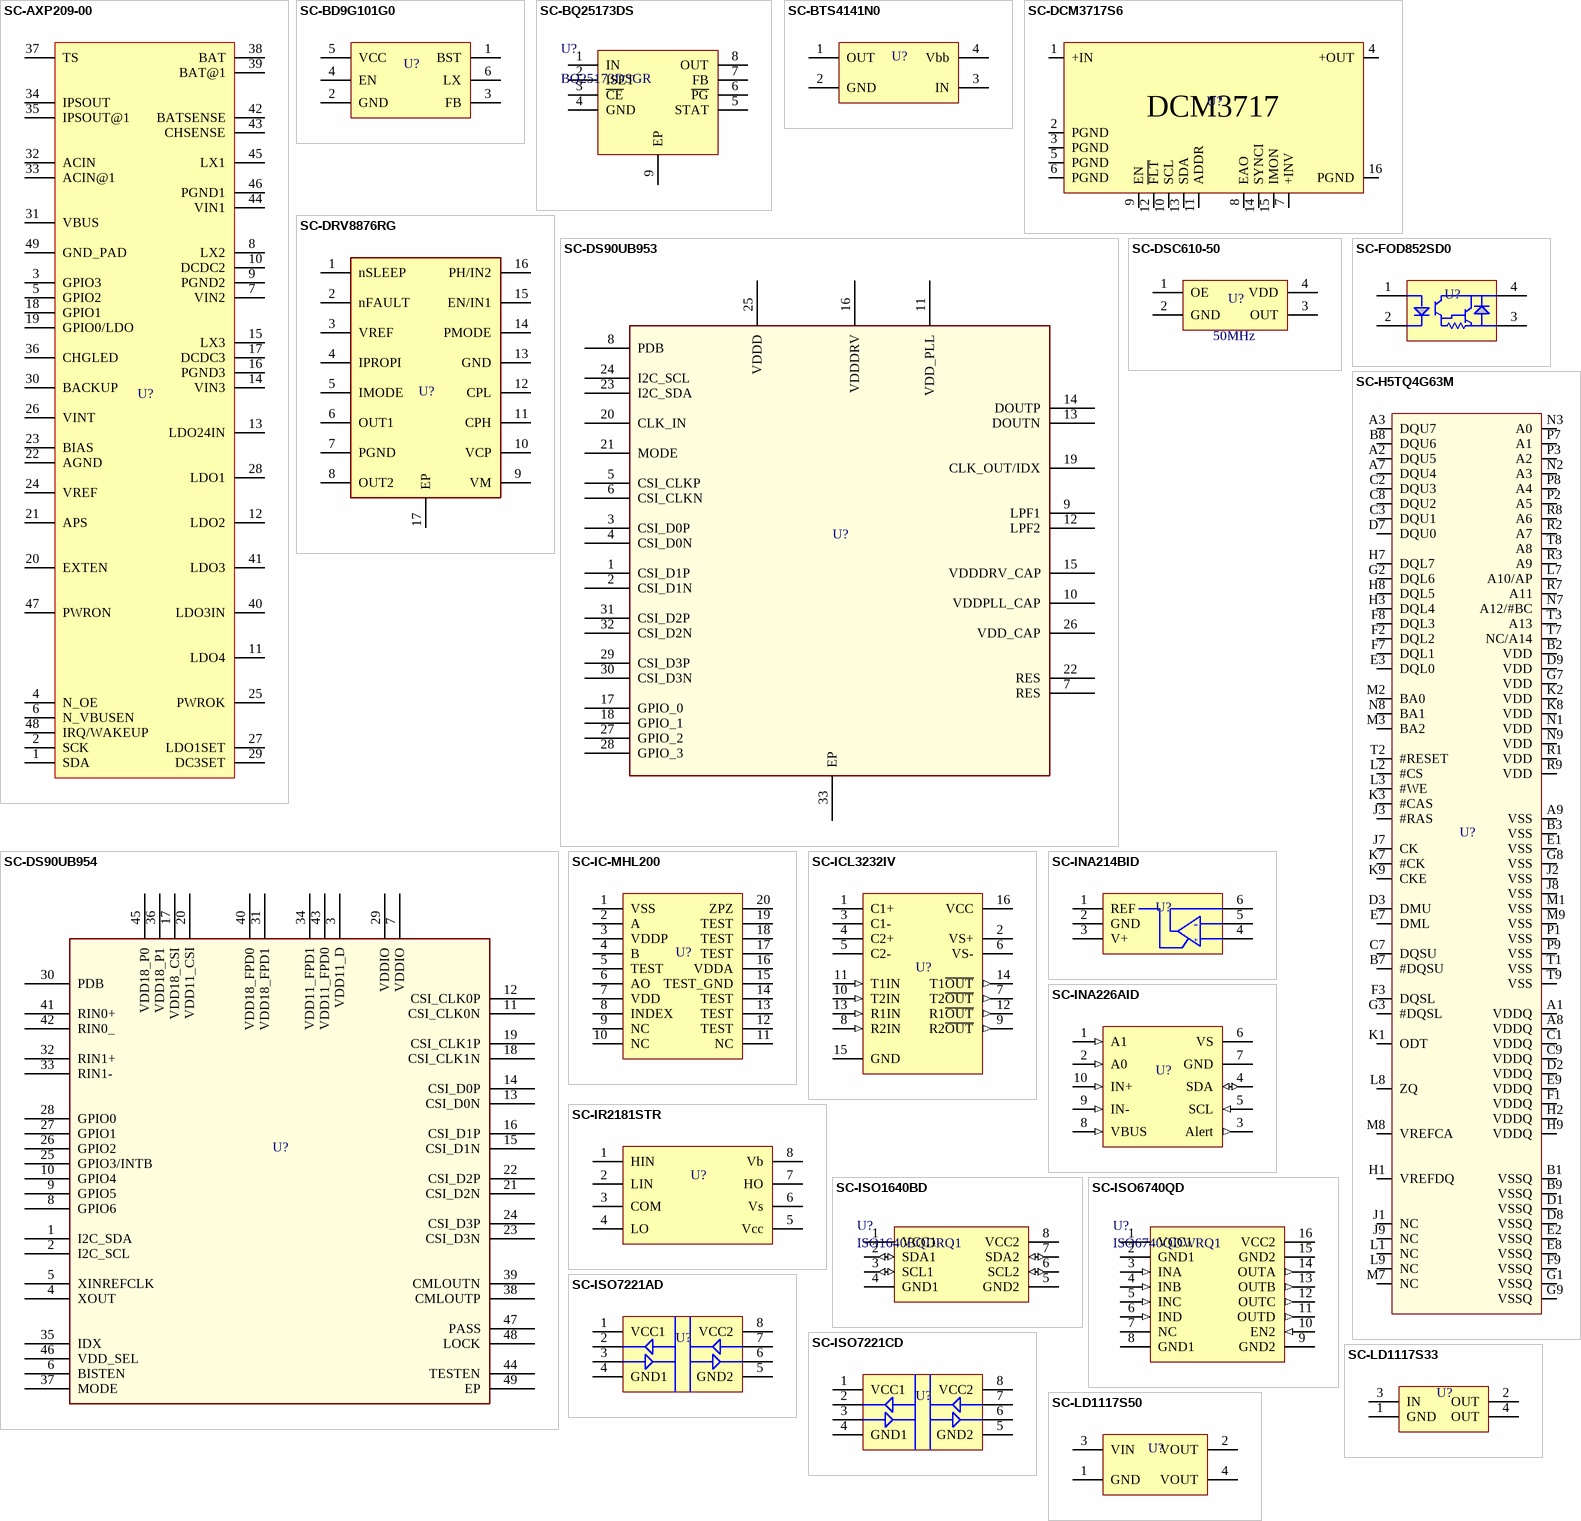
[diagram p2: symbols SC-AXP209-00 to SC-LD1117S50]

## SC-AXP209-00
designator U?
Enhanced single Cell Li-Battery and Power System Management IC; Manufacturer Part Number: AXP209; Working Temperature: -40°C ~ 130°C (TJ); Temperature Coefficient: NC; Short Description: ND; Voltage: 2.9V ~ 6.3V; Value: NC; Mounting: SMT; Power: NC; Ratings: *; Type: NC; Frequency: NC; Alternate Part Number 1: *; Alternate Part Number 2: *; Manufacturer: ND; Tolerance: NC; Current: NC; Revision Date: 03/08/21; Package Reference: PQFN-48_6X6
footprint PQFN-48_6X6
pins: 1 SDA, 2 SCK, 3 GPIO3, 4 N_OE, 5 GPIO2, 6 N_VBUSEN, 7 VIN2, 8 LX2, 9 PGND2, 10 DCDC2, 11 LDO4, 12 LDO2, 13 LDO24IN, 14 VIN3, 15 LX3, 16 PGND3, 17 DCDC3, 18 GPIO1, 19 GPIO0/LDO, 20 EXTEN, 21 APS, 22 AGND, 23 BIAS, 24 VREF, 25 PWROK, 26 VINT, 27 LDO1SET, 28 LDO1, 29 DC3SET, 30 BACKUP, 31 VBUS, 32 ACIN, 33 ACIN@1, 34 IPSOUT, 35 IPSOUT@1, 36 CHGLED, 37 TS, 38 BAT, 39 BAT@1, 40 LDO3IN, 41 LDO3, 42 BATSENSE, 43 CHSENSE, 44 VIN1, 45 LX1, 46 PGND1, 47 PWRON, 48 IRQ/WAKEUP, 49 GND_PAD

## SC-BD9G101G0
designator U?
Buck Switching Regulator IC Positive Adjustable 1V 1 Output 500mA SOT-23-6; Manufacturer Part Number: BD9G101G-TR; Manufacturer: Rohm Semiconductor; Working Temperature: -40°C ~ 105°C (TA); Temperature Coefficient: NC; Short Description: IC REG BUCK ADJ 500MA 6SSOP; Ratings: REACH, ROHS3; Frequency: 1.5MHz; Voltage: 6V ~ 42V; Value: NC; Mounting: SMT; Power: NC; Type: Buck; Alternate Part Number 1: *; Alternate Part Number 2: *; Tolerance: NC; Current: 500mA; Revision Date: 03/08/21; Package Reference: SOT-23-6
footprint SOT-23-6 (Footprint not found)
pins: 1 BST, 2 GND, 3 FB, 4 EN, 5 VCC, 6 LX

## SC-BQ25173DS
designator U?, comment BQ25173DSGR
Battery Management 800-mA linear charger for 1-cell to 4-cell supercapacitor; Manufacturer_Name: Texas Instruments; Datasheet Link: https://www.ti.com/lit/ds/symlink/bq25173.pdf?ts=1639457789781&ref_url=https%253A%252F%252Fwww.ti.com%252Fproduct%252FBQ25173%253FkeyMatch%253DBQ25173DSGR%2526tisearch%253Dsearch-everything%2526usecase%253DOPN; Height: 0.8mm; Manufacturer_Part_Number: BQ25173DSGR; Mounting: SMT
footprint WSON-8
pins: 1 IN, 2 ISET, 3 ~{CE}, 4 GND, 5 STAT, 6 ~{PG}, 7 FB, 8 OUT, 9 EP

## SC-BTS4141N0
designator U?
Power Switch/Driver 1:1 N-Channel 700mA PG-SOT223-4; Manufacturer Part Number: BTS4141NHUMA1; Alternate Part Number 1: BTS4141NNT; Manufacturer: Infineon Technologies; Working Temperature: -40°C ~ 125°C (TJ); Temperature Coefficient: NC; Short Description: IC PWR SWTCH N-CHAN 1:1 SOT223-4; Ratings: REACH, ROHS3; Voltage: 12V ~ 45V; Value: NC; Mounting: SMT; Power: NC; Type: High Side; Frequency: NC; Alternate Part Number 2: *; Tolerance: NC; Current: 700mA; Revision Date: 03/08/21; Package Reference: SOT-223
footprint SOT-223 (Footprint not found)
pins: 1 OUT, 2 GND, 3 IN, 4 Vbb

## SC-DCM3717S6
designator U?
Non-Isolated PoL Module DC DC Converter Output 12.2V 62.5A 40V - 60V Input; Manufacturer Part Number: DCM3717S60E14G5TN0; Manufacturer: Vicor Corporation; Working Temperature: -20°C ~ 125°C; Temperature Coefficient: NC; Short Description: DC DC CONVERTER 12.2V 750W; Power: 750W; Ratings: ROHS3; Value: NC; Mounting: SMT; Type: NC; Frequency: NC; Alternate Part Number 1: *; Alternate Part Number 2: *; Tolerance: NC; Current: NC; Revision Date: 02/09/21; Package Reference: DCM3717; Voltage: NC
footprint DCM3717
pins: 1 +IN, 2 PGND, 3 PGND, 4 +OUT, 5 PGND, 6 PGND, 7 +INV, 8 EAO, 9 EN, 10 SCL, 11 ADDR, 12 ~{FLT}, 13 SDA, 14 SYNCI, 15 IMON, 16 PGND

## SC-DRV8876RG
designator U?
Unipolar Motor Driver NMOS PWM 16-VQFN (3x3); Manufacturer Part Number: DRV8876RGTR; Manufacturer: Texas Instruments; Working Temperature: -40°C ~ 125°C; Temperature Coefficient: NC; Short Description: IC MOTOR DRIVER DC 5.5V 16VQFN; Ratings: REACH, ROHS3; Current: 3.5A; Voltage: 4.5V ~ 37V; Value: NC; Mounting: SMT; Power: NC; Type: NC; Frequency: NC; Alternate Part Number 1: *; Alternate Part Number 2: *; Tolerance: NC; Revision Date: 05/08/22; Package Reference: 16-VQFN (3x3); ComponentLink1Description: Data Sheet; ComponentLink1URL: https://www.ti.com/lit/ds/symlink/drv8876.pdf?ts=1659683804846&ref_url=https%253A%252F%252Fwww.google.com%252F
footprint DRV8876R
pins: 1 nSLEEP, 2 nFAULT, 3 VREF, 4 IPROPI, 5 IMODE, 6 OUT1, 7 PGND, 8 OUT2, 9 VM, 10 VCP, 11 CPH, 12 CPL, 13 GND, 14 PMODE, 15 EN/IN1, 16 PH/IN2, 17 EP

## SC-DS90UB953
designator U?
4.16Gbps Serializer 1 Input 1 Output 32-VQFN (5x5); Manufacturer Part Number: DS90UB954TRGZTQ1; Alternate Part Number 1: DS90UB953TRHBRQ1; Manufacturer: Texas Instruments; Working Temperature: -40°C ~ 105°C; Temperature Coefficient: NC; Ratings: REACH, AEC-Q100, ROHS3; Value: NC; Mounting: SMT; Short Description: 4.16Gbps Serializer 1 Input 1 Output 32-VQFN (5x5); Power: NC; Type: CSI-2, MIPI; Frequency: NC; Alternate Part Number 2: *; Tolerance: NC; Current: NC; Revision Date: 13/04/23; Package Reference: 32-VQFN (5x5); Voltage: NC
footprint 32-VQFN (5x5) (Stencil de espesor 5mil)
pins: 1 CSI_D1P, 2 CSI_D1N, 3 CSI_D0P, 4 CSI_D0N, 5 CSI_CLKP, 6 CSI_CLKN, 7 RES, 8 PDB, 9 LPF1, 10 VDDPLL_CAP, 11 VDD_PLL, 12 LPF2, 13 DOUTN, 14 DOUTP, 15 VDDDRV_CAP, 16 VDDDRV, 17 GPIO_0, 18 GPIO_1, 19 CLK_OUT/IDX, 20 CLK_IN, 21 MODE, 22 RES, 23 I2C_SDA, 24 I2C_SCL, 25 VDDD, 26 VDD_CAP, 27 GPIO_2, 28 GPIO_3, 29 CSI_D3P, 30 CSI_D3N, 31 CSI_D2P, 32 CSI_D2N, 33 EP

## SC-DS90UB954
designator U?
1.5Gbps Deserializer 2 Input Output 48-VQFN (7x7); Manufacturer Part Number: DS90UB954TRGZTQ1; Alternate Part Number 1: DS90UB954TRGZRQ1; Manufacturer: Texas Instruments; Working Temperature: -40°C ~ 105°C; Temperature Coefficient: NC; Short Description: 12-BIT 100MHFPD-LINK III DESERIA; Ratings: REACH, AEQ-101, ROHS3; Value: NC; Mounting: SMT; Power: NC; Type: CSI-2, MIPI; Frequency: NC; Alternate Part Number 2: *; Tolerance: NC; Current: NC; Revision Date: 10/08/22; Package Reference: 48-VQFN (7x7); Voltage: NC
footprint 48-VQFN (7x7)
pins: 1 I2C_SDA, 2 I2C_SCL, 3 VDD11_D, 4 XOUT, 5 XINREFCLK, 6 BISTEN, 7 VDDIO, 8 GPIO6, 9 GPIO5, 10 GPIO4, 11 CSI_CLK0N, 12 CSI_CLK0P, 13 CSI_D0N, 14 CSI_D0P, 15 CSI_D1N, 16 CSI_D1P, 17 VDD18_CSI, 18 CSI_CLK1N, 19 CSI_CLK1P, 20 VDD11_CSI, 21 CSI_D2N, 22 CSI_D2P, 23 CSI_D3N, 24 CSI_D3P, 25 GPIO3/INTB, 26 GPIO2, 27 GPIO1, 28 GPIO0, 29 VDDIO, 30 PDB, 31 VDD18_FPD1, 32 RIN1+, 33 RIN1-, 34 VDD11_FPD1, 35 IDX, 36 VDD18_P1, 37 MODE, 38 CMLOUTP, 39 CMLOUTN, 40 VDD18_FPD0, 41 RIN0+, 42 RIN0_, 43 VDD11_FPD0, 44 TESTEN, 45 VDD18_P0, 46 VDD_SEL, 47 PASS, 48 LOCK, 49 EP

## SC-DSC610-50
designator U?  value 50MHz
50 MHz XO (Standard) CMOS Oscillator 1.8V ~ 3.3V Enable/Disable 4-SMD, No Lead; Manufacturer Part Number: DSC6101JI2A-050.0000T; Manufacturer: Microchip Technology; Working Temperature: -40°C ~ 85°C; Temperature Coefficient: NC; Short Description: MEMS OSC XO 50.0000MHZ CMOS SMD; Ratings: AEC-Q100/ROHS3/REACH; Tolerance: ±25ppm; Current: 3mA (Typ); Voltage: 2V ~ 5.5V; Mounting: SMT; Power: NC; Type: XO Standar; Frequency: NC; Alternate Part Number 1: *; Alternate Part Number 2: *; Revision Date: 09/05/23; Package Reference: VLGA 2.5x2mm
footprint VLGA 2.5x2mm (Footprint not found)
pins: 1 OE, 2 GND, 3 OUT, 4 VDD

## SC-FOD852SD0
designator U?
Optoisolator Darlington Output 5000Vrms 1 Channel 4-SMD; Manufacturer Part Number: FOD852SD; Manufacturer: ON Semiconductor; Working Temperature: -30°C ~ 100°C; Temperature Coefficient: NC; Short Description: OPTOISOLATOR 5KV DARLINGTON 4SMD; Ratings: REACH, ROHS3; Current: 150mA; Voltage: 300V; Value: NC; Mounting: SMT; Power: NC; Type: Darlington; Frequency: NC; Alternate Part Number 1: *; Alternate Part Number 2: *; Tolerance: NC; Revision Date: 03/08/21; Package Reference: DIP-4SMD
footprint DIP-4SMD (Footprint not found)
pins: 1 CATHODE, 2 ANODE, 3 ANODE, 4 ANODE

## SC-H5TQ4G63M
designator U?
DRAM chip DDR3 SDRAM 4GBIT 1.5V 96-pin FBGA; Manufacturer Part Number: H5TQ4G63AFR-H9I; Manufacturer: SKHynix; Working Temperature: NC; Short Description: DDR3 256M x 16 - 96ball FBGA; Ratings: ROHS; Frequency: 667~1333MHz; Voltage: 1.5V +/- 0.075V; Value: NC; Temperature Coefficient: NC; Mounting: SMT; Power: NC; Type: DDR3; Alternate Part Number 1: *; Alternate Part Number 2: *; Tolerance: NC; Current: NC; Revision Date: 03/08/21; Package Reference: *
footprint FBGA-96_MEM
pins: A1 VDDQ, A2 DQU5, A3 DQU7, A7 DQU4, A8 VDDQ, A9 VSS, B1 VSSQ, B2 VDD, B3 VSS, B7 #DQSU, B8 DQU6, B9 VSSQ, C1 VDDQ, C2 DQU3, C3 DQU1, C7 DQSU, C8 DQU2, C9 VDDQ, D1 VSSQ, D2 VDDQ, D3 DMU, D7 DQU0, D8 VSSQ, D9 VDD, E1 VSS, E2 VSSQ, E3 DQL0, E7 DML, E8 VSSQ, E9 VDDQ, F1 VDDQ, F2 DQL2, F3 DQSL, F7 DQL1, F8 DQL3, F9 VSSQ, G1 VSSQ, G2 DQL6, G3 #DQSL, G7 VDD, G8 VSS, G9 VSSQ, H1 VREFDQ, H2 VDDQ, H3 DQL4, H7 DQL7, H8 DQL5, H9 VDDQ, J1 NC, J2 VSS, J3 #RAS, J7 CK, J8 VSS, J9 NC, K1 ODT, K2 VDD, K3 #CAS, K7 #CK, K8 VDD, K9 CKE, L1 NC, L2 #CS, L3 #WE, L7 A10/AP, L8 ZQ, L9 NC, M1 VSS, M2 BA0, M3 BA2, M7 NC, M8 VREFCA, M9 VSS, N1 VDD, N2 A3, N3 A0, N7 A12/#BC, N8 BA1, N9 VDD, P1 VSS, P2 A5, P3 A2, P7 A1, P8 A4, P9 VSS, R1 VDD, R2 A7, R3 A9, R7 A11, R8 A6, R9 VDD, T1 VSS, T2 #RESET, T3 A13, T7 NC/A14, T8 A8, T9 VSS

## SC-IC-MHL200
designator U?
12-BIT LINEAR / ROTARY POSITION HALL ENCODER; Manufacturer Part Number: IC-MHL200; Manufacturer: ICHaus; Working Temperature: -40 to +125 °C; Temperature Coefficient: NC; Short Description: ND; Ratings: ROHS, AEQ-100; Value: NC; Mounting: SMT; Power: NC; Type: NC; Frequency: NC; Alternate Part Number 1: *; Alternate Part Number 2: *; Tolerance: NC; Current: NC; Revision Date: 03/08/21; Package Reference: TSSOP-20; Voltage: NC
footprint TSSOP-20 (Footprint not found)
pins: 1 VSS, 2 A, 3 VDDP, 4 B, 5 TEST, 6 AO, 7 VDD, 8 INDEX, 9 NC, 10 NC, 11 NC, 12 TEST, 13 TEST, 14 TEST, 15 TEST_GND, 16 VDDA, 17 TEST, 18 TEST, 19 TEST, 20 ZPZ

## SC-ICL3232IV
designator U?
2/2 Transceiver Full RS232 16-TSSOP; Manufacturer Part Number: ICL3232IVZ; Manufacturer: Renesas Electronics America Inc; Working Temperature: -40°C ~ 85°C; Temperature Coefficient: NC; Short Description: ND; Ratings: REACH, ROHS3; Frequency: 250kbps; Voltage: 3V ~ 5.5V; Value: NC; Mounting: SMT; Power: NC; Type: RS232; Alternate Part Number 1: *; Alternate Part Number 2: *; Tolerance: NC; Current: NC; Revision Date: 03/08/21; Package Reference: TSSOP-16
footprint TSSOP-16 (Footprint not found)
pins: 1 C1+, 2 VS+ (power), 3 C1-, 4 C2+, 5 C2-, 6 VS- (power), 7 T2~{OUT} (out), 8 R2IN (in), 9 R2~{OUT} (out), 10 T2IN (in), 11 T1IN (in), 12 R1~{OUT} (out), 13 R1IN (in), 14 T1~{OUT} (out), 15 GND (power), 16 VCC (power)

## SC-INA214BID
designator U?
Current Sense Amplifier 1 Circuit - SC-70-6; Manufacturer Part Number: INA214BIDCKR; Manufacturer: Texas Instruments; Working Temperature: -40°C ~ 125°C; Temperature Coefficient: NC; Short Description: IC CURR SENSE 1 CIRCUIT SC70-6; Ratings: REACH, ROHS3; Voltage: 2.7V ~ 26V; Value: NC; Mounting: SMT; Power: NC; Type: NC; Frequency: NC; Alternate Part Number 1: *; Alternate Part Number 2: *; Tolerance: NC; Current: NC; Revision Date: 03/08/21; Package Reference: SOT-363-6
footprint SOT-363-6 (Footprint not found)
pins: 1 REF, 2 GND, 3 V+, 4 IN+, 5 IN-, 6 OUT
text: -; +

## SC-INA226AID
designator U?
Current Monitor Regulator High/Low-Side 10mA 10-VSSOP; Manufacturer Part Number: INA226AIDGSR; Alternate Part Number 1: INA226AQDGSRQ1; Manufacturer: Texas Instruments; Working Temperature: -40°C ~ 125°C; Temperature Coefficient: NC; Short Description: IC CURRENT MONITOR 0.02% 10VSSOP; Ratings: ROHS3 Compliant, REACH Unaffected; Tolerance: ±0.02%; Voltage: 0V ~ 36V; Value: NC; Mounting: SMD; Power: NC; Type: Current Monitor High/Low-Side; Frequency: NC; Alternate Part Number 2: *; Current: 10mA; Revision Date: 12/06/2023; Package Reference: 10-TFSOP, 10-MSOP; ComponentLink1Description: Datasheet; ComponentLink1URL: https://www.ti.com/lit/ds/symlink/ina226.pdf; ComponentLink2Description: Evaluation module user guide; ComponentLink2URL: https://www.ti.com/lit/pdf/sbou276
footprint VSSOP-10
pins: 1 A1 (in), 2 A0 (in), 3 Alert (out), 4 SDA (io), 5 SCL (in), 6 VS (power), 7 GND (power), 8 VBUS (in), 9 IN- (in), 10 IN+ (in)

## SC-IR2181STR
designator U?
Half-Bridge Gate Driver IC Non-Inverting 8-SOIC; Manufacturer Part Number: IR2181STRPBF; Manufacturer: Infineon Technologies; Working Temperature: -40°C ~ 150°C (TJ); Temperature Coefficient: NC; Short Description: IC GATE DRVR HALF-BRIDGE 8SOIC; Ratings: REACH, ROHS3; Current: 1.9A, 2.3A; Voltage: 600V; Value: NC; Mounting: SMT; Power: NC; Type: Half-Bridge; Frequency: NC; Alternate Part Number 1: *; Alternate Part Number 2: *; Tolerance: NC; Revision Date: 03/08/21; Package Reference: SOIC-8N
footprint SOIC-8N (Footprint not found)
pins: 1 HIN, 2 LIN, 3 COM, 4 LO, 5 Vcc, 6 Vs, 7 HO, 8 Vb

## SC-ISO1640BD
designator U?, comment ISO1640BQDRQ1
Automotive, Hot-Swappable Bidirectional I2C Isolators with Enhanced EMC; Manufacturer_Name: Texas Instruments; Datasheet Link: https://www.ti.com/lit/ds/symlink/iso1640-q1.pdf?HQS=dis-mous-null-mousermode-dsf-pf-null-wwe&ts=1684139938505&ref_url=https%253A%252F%252Fwww.mouser.at%252F; Height: 2.65mm; Manufacturer_Part_Number: ISO1640BQDRQ1; Mounting: SMT
footprint SOIC-8N
pins: 1 VCC1 (power), 2 SDA1 (io), 3 SCL1 (io), 4 GND1 (power), 5 GND2 (power), 6 SCL2 (io), 7 SDA2 (io), 8 VCC2 (power)

## SC-ISO6740QD
designator U?, comment ISO6740QDWRQ1
General-Purpose Reinforced Quad-Channel Automotive Digital Isolators; Manufacturer_Name: Texas Instruments; Datasheet Link: https://www.ti.com/lit/ds/symlink/iso6741-q1.pdf?ts=1614655398955; Height: 2.65mm; Manufacturer_Part_Number: ISO6740QDWRQ1; Mounting: SMT
footprint SOIC-16W
pins: 1 VCC1 (power), 2 GND1 (power), 3 INA (in), 4 INB (in), 5 INC (in), 6 IND (in), 7 NC, 8 GND1 (power), 9 GND2 (power), 10 EN2 (in), 11 OUTD (out), 12 OUTC (out), 13 OUTB (out), 14 OUTA (out), 15 GND2 (power), 16 VCC2 (power)

## SC-ISO7221AD
designator U?
General Purpose Digital Isolator 2500Vrms Channel 1Mbps 25kV/µs CMTI 8-SOIC (0.154", 3.90mm Width); Manufacturer Part Number: ISO7221ADR; Manufacturer: Texas Instruments; Working Temperature: -40°C ~ 125°C; Temperature Coefficient: NC; Short Description: DGTL ISO 2500VRMS 2CH GP 8SOIC; Ratings: REACH, ROHS3; Voltage: 3V ~ 5.5V; Value: NC; Mounting: SMT; Power: NC; Type: Capacitive Coupling; Frequency: 1Mbps; Alternate Part Number 1: *; Alternate Part Number 2: *; Tolerance: NC; Current: NC; Revision Date: 03/08/21; Package Reference: SOIC-8N
footprint SOIC-8N (Footprint not found)
pins: 1 VCC1, 2 OUTA, 3 INB, 4 GND1, 5 GND2, 6 OUTB, 7 INA, 8 VCC2

## SC-ISO7221CD
designator U?
General Purpose Digital Isolator 2500Vrms Channel 25Mbps 25kV/µs CMTI 8-SOIC (0.154", 3.90mm Width); Manufacturer Part Number: ISO7221CDR; Manufacturer: Texas Instruments; Working Temperature: -40°C ~ 125°C; Temperature Coefficient: NC; Short Description: DGTL ISO 2500VRMS 2CH GP 8SOIC; Ratings: REACH, ROHS3; Voltage: 2.8V ~ 5.5V; Value: NC; Mounting: SMT; Power: NC; Type: Capacitive Coupling; Frequency: 25Mbps; Alternate Part Number 1: *; Alternate Part Number 2: *; Tolerance: NC; Current: NC; Revision Date: 03/08/21; Package Reference: SOIC-8N
footprint SOIC-8N (Footprint not found)
pins: 1 VCC1, 2 OUTA, 3 INB, 4 GND1, 5 GND2, 6 OUTB, 7 INA, 8 VCC2

## SC-LD1117S33
designator U?
Linear Voltage Regulator IC Positive Fixed 1 Output 800mA SOT-223; Manufacturer Part Number: LD1117S33CTR; Manufacturer: STMicroelectronics; Working Temperature: -40°C ~ 125°C; Temperature Coefficient: NC; Short Description: IC REG LINEAR 3.3V 800MA SOT223; Ratings: REACH, ROHS3; Voltage: 3.3V; Value: NC; Mounting: SMT; Power: NC; Type: Linear; Frequency: NC; Alternate Part Number 1: *; Alternate Part Number 2: *; Tolerance: NC; Current: 800mA; Revision Date: 03/08/21; Package Reference: SOT-223
footprint SOT-223 (Footprint not found)
pins: 1 GND (power), 2 OUT (power), 3 IN (power), 4 OUT

## SC-LD1117S50
designator U?
Linear Voltage Regulator IC Positive Fixed 1 Output 800mA SOT-223; Manufacturer Part Number: LD1117S50CTR; Manufacturer: STMicroelectronics; Working Temperature: -40°C ~ 125°C; Temperature Coefficient: NC; Short Description: IC REG LINEAR 5V 800MA SOT223; Ratings: REACH, ROHS3; Voltage: 5V; Value: NC; Mounting: SMT; Power: NC; Type: Linear; Frequency: NC; Alternate Part Number 1: *; Alternate Part Number 2: *; Tolerance: NC; Current: 800mA; Revision Date: 03/08/21; Package Reference: SOT-223
footprint SOT-223 (Footprint not found)
pins: 1 GND, 2 VOUT, 3 VIN, 4 VOUT

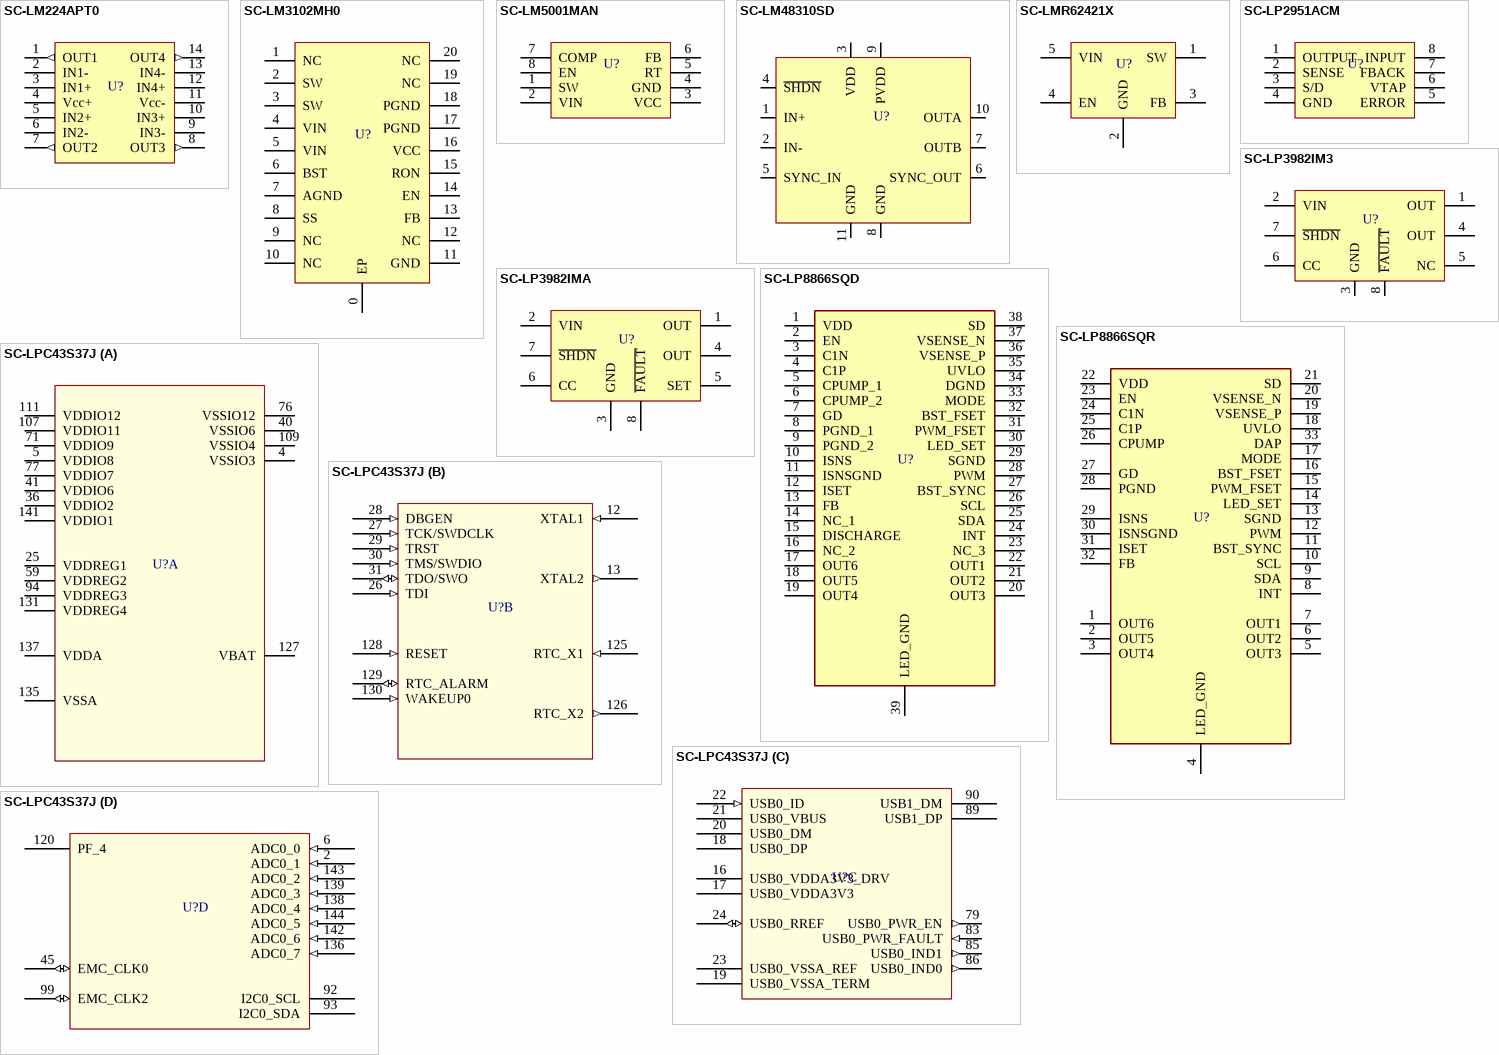
[diagram p3: symbols SC-LM224APT0 to SC-LPC43S37J]

## SC-LM224APT0
designator U?
General Purpose Amplifier 4 Circuit - 14-TSSOP; Manufacturer Part Number: LM224APT; Manufacturer: STMicroelectronics; Working Temperature: -40°C ~ 105°C; Temperature Coefficient: NC; Short Description: IC OPAMP GP 4 CIRCUIT 14TSSOP; Ratings: REACH, ROHS3; Voltage: 3V ~ 30V, ±1.5V ~ 15V; Value: NC; Mounting: SMT; Power: NC; Type: NC; Frequency: NC; Alternate Part Number 1: *; Alternate Part Number 2: *; Tolerance: NC; Current: NC; Revision Date: 03/08/21; Package Reference: TSSOP-14
footprint TSSOP-14 (Footprint not found)
pins: 1 OUT1 (out), 2 IN1- (hiz), 3 IN1+ (hiz), 4 Vcc+ (power), 5 IN2+ (hiz), 6 IN2- (hiz), 7 OUT2 (out), 8 OUT3 (out), 9 IN3- (hiz), 10 IN3+ (hiz), 11 Vcc- (power), 12 IN4+ (hiz), 13 IN4- (hiz), 14 OUT4 (out)

## SC-LM3102MH0
designator U?
Buck Switching Regulator IC Positive Adjustable 0.8V 1 Output 2.5A 20-PowerTSSOP (0.173", 4.40mm Width); Manufacturer Part Number: LM3102MH/NOPB; Manufacturer: Texas Instruments; Working Temperature: -40°C ~ 125°C (TJ); Temperature Coefficient: NC; Short Description: IC REG BUCK ADJ 2.5A 20HTSSOP; Ratings: REACH, ROHS3; Frequency: 1MHz; Voltage: 42V; Value: NC; Mounting: SMT; Power: NC; Type: Buck; Alternate Part Number 1: *; Alternate Part Number 2: *; Tolerance: NC; Current: 2.5A; Revision Date: 03/08/21; Package Reference: HTSSOP-20
footprint HTSSOP-20 (Footprint not found)
pins: 0 EP, 1 NC, 2 SW, 3 SW, 4 VIN, 5 VIN, 6 BST, 7 AGND, 8 SS, 9 NC, 10 NC, 11 GND, 12 NC, 13 FB, 14 EN, 15 RON, 16 VCC, 17 PGND, 18 PGND, 19 NC, 20 NC

## SC-LM5001MAN
designator U?
Boost, Flyback, Forward Converter, SEPIC Switching Regulator IC Positive, Isolation Capable Adjustable 3.1V 1 Output 800mA (Switch) 8-SOIC (0.154", 3.90mm Width); Manufacturer Part Number: LM5001MA/NOPB; Manufacturer: Texas Instruments; Working Temperature: -40°C ~ 125°C (TJ); Temperature Coefficient: NC; Short Description: IC REG MULTI CONFG ADJ 8SOIC; Ratings: REACH, ROHS3; Frequency: 50kHz ~ 1.5MHz; Value: NC; Mounting: SMT; Power: NC; Type: Step-Up; Alternate Part Number 1: *; Alternate Part Number 2: *; Tolerance: NC; Current: 800mA; Revision Date: 03/08/21; Package Reference: SOIC-8N; Voltage: NC
footprint SOIC-8N (Footprint not found)
pins: 1 SW, 2 VIN, 3 VCC, 4 GND, 5 RT, 6 FB, 7 COMP, 8 EN

## SC-LM48310SD
designator U?
Amplifier IC 1-Channel (Mono) Class D 10-WSON (3x3); Manufacturer Part Number: LM48310SD/NOPB; Manufacturer: Texas Instruments; Working Temperature: -40°C ~ 85°C (TA); Temperature Coefficient: NC; Short Description: IC AMP CLASS D MONO 2.6W 10WSON; Power: 2.6W; Ratings: REACH, ROHS3; Voltage: 2.4V ~ 5.5V; Value: NC; Mounting: SMT; Type: Class D; Frequency: NC; Alternate Part Number 1: *; Alternate Part Number 2: *; Tolerance: NC; Current: NC; Revision Date: 03/08/21; Package Reference: WFDFN-10
footprint WFDFN-10
pins: 1 IN+, 2 IN-, 3 VDD, 4 ~{SHDN}, 5 SYNC_IN, 6 SYNC_OUT, 7 OUTB, 8 GND, 9 PVDD, 10 OUTA, 11 GND

## SC-LMR62421X
designator U?
Boost, SEPIC Switching Regulator IC Positive Adjustable 2.7V 1 Output 2.1A (Switch) SC-74A, SOT-753; Manufacturer Part Number: LMR62421XMFE/NOPB; Manufacturer: Texas Instruments; Working Temperature: -40°C ~ 125°C (TJ); Temperature Coefficient: NC; Short Description: IC REG BST SEPIC ADJ 2.1A SOT23; Ratings: REACH, ROHS3; Frequency: 1.6MHz; Value: NC; Mounting: SMT; Power: NC; Type: Step-Up; Alternate Part Number 1: *; Alternate Part Number 2: *; Tolerance: NC; Current: 2.1A; Revision Date: 03/08/21; Package Reference: SOT-23-5; Voltage: NC
footprint SOT-23-5 (Footprint not found)
pins: 1 SW, 2 GND, 3 FB, 4 EN, 5 VIN

## SC-LP2951ACM
designator U?
Linear Voltage Regulator IC Positive Adjustable (Fixed) Output 100mA 8-SOIC; Manufacturer Part Number: LP2951ACM/NOPB; Manufacturer: Texas Instruments; Working Temperature: -40°C ~ 125°C (TJ); Temperature Coefficient: NC; Short Description: IC REG LIN POS ADJ 100MA 8SOIC; Ratings: REACH, ROHS3; Voltage: 30V; Value: NC; Mounting: SMT; Power: NC; Type: Linear; Frequency: NC; Alternate Part Number 1: *; Alternate Part Number 2: *; Tolerance: NC; Current: 100mA; Revision Date: 03/08/21; Package Reference: SOIC-8N
footprint SOIC-8N (Footprint not found)
pins: 1 OUTPUT, 2 SENSE, 3 S/D, 4 GND, 5 ERROR, 6 VTAP, 7 FBACK, 8 INPUT

## SC-LP3982IM3
designator U?
Linear Voltage Regulator IC Positive Fixed 1 Output 300mA 8-VSSOP; Manufacturer Part Number: LP3982IMM-3.3/NOPB; Manufacturer: Texas Instruments; Working Temperature: -40°C ~ 85°C; Temperature Coefficient: NC; Short Description: IC REG LINEAR 3.3V 300MA 8VSSOP; Ratings: REACH, ROHS3; Voltage: 6V; Value: NC; Mounting: SMT; Power: NC; Type: Linear; Frequency: NC; Alternate Part Number 1: *; Alternate Part Number 2: *; Tolerance: NC; Current: 300mA; Revision Date: 03/08/21; Package Reference: VSSOP-8; ComponentLink1Description: Datasheet; ComponentLink1URL: https://www.ti.com/lit/gpn/lp3982
footprint VSSOP-8 (Footprint not found)
pins: 1 OUT, 2 VIN, 3 GND, 4 OUT, 5 NC, 6 CC, 7 ~{SHDN}, 8 ~{FAULT}

## SC-LP3982IMA
designator U?
Linear Voltage Regulator IC Positive Adjustable 1 Output 300mA 8-VSSOP; Manufacturer Part Number: LP3982IMM-ADJ/NOPB; Alternate Part Number 1: LP3982IMMX-ADJ/NOPB; Manufacturer: Texas Instruments; Working Temperature: -40°C ~ 85°C; Temperature Coefficient: NC; Short Description: IC REG LIN POS ADJ 300MA 8VSSOP; Ratings: REACH, ROHS3; Voltage: 6V; Value: NC; Mounting: SMT; Power: NC; Type: Linear; Frequency: NC; Alternate Part Number 2: *; Tolerance: NC; Current: 300mA; Revision Date: 03/08/21; Package Reference: VSSOP-8; ComponentLink1Description: Datasheet; ComponentLink1URL: https://www.ti.com/lit/gpn/lp3982
footprint VSSOP-8 (Footprint not found)
pins: 1 OUT, 2 VIN, 3 GND, 4 OUT, 5 SET, 6 CC, 7 ~{SHDN}, 8 ~{FAULT}

## SC-LP8866SQD
designator U?
LED Driver IC 6 Output DC DC Controller SEPIC, Step-Up (Boost) PWM Dimming 150mA 38-HTSSOP; Manufacturer Part Number: LP8866SQDCPRQ1; Manufacturer: Texas Instruments; Working Temperature: -40°C ~ 125°C; Temperature Coefficient: NC; Short Description: AUTOMOTIVE DISPLAY LED-BACKLIGHT; Ratings: REACH, ROHS3; Value: NC; Mounting: SMT; Power: NC; Type: NC; Frequency: NC; Alternate Part Number 1: *; Alternate Part Number 2: *; Tolerance: NC; Current: NC; Revision Date: 20/09/21; Package Reference: 38-TFSOP; Voltage: NC; ComponentLink1Description: Datasheet; ComponentLink1URL: https://www.ti.com/lit/gpn/lp8866-q1
footprint TFSOP-38
pins: 1 VDD, 2 EN, 3 C1N, 4 C1P, 5 CPUMP_1, 6 CPUMP_2, 7 GD, 8 PGND_1, 9 PGND_2, 10 ISNS, 11 ISNSGND, 12 ISET, 13 FB, 14 NC_1, 15 DISCHARGE, 16 NC_2, 17 OUT6, 18 OUT5, 19 OUT4, 20 OUT3, 21 OUT2, 22 OUT1, 23 NC_3, 24 INT, 25 SDA, 26 SCL, 27 BST_SYNC, 28 PWM, 29 SGND, 30 LED_SET, 31 PWM_FSET, 32 BST_FSET, 33 MODE, 34 DGND, 35 UVLO, 36 VSENSE_P, 37 VSENSE_N, 38 SD, 39 LED_GND